# EAGLE library part 10M?D (library crystal)
Monolithic Crystal Filters Source: www.vanlong.com
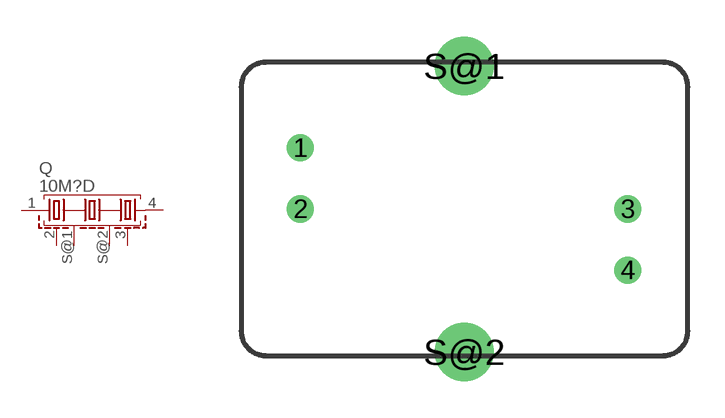
[diagram p7: symbol with the pads of M-4; footprint M-4]

Designator prefix Q

## 10M15D (OC_FARNELL: unknown; OC_NEWARK: unknown), 10M15D1 (OC_FARNELL: unknown; OC_NEWARK: unknown)  [M-4]
1  1  pas
2  2  pas
3  3  pas
4  4  pas
S@1  S  pas
S@2  S  pas

## Footprint M-4 (pad centres in mm)
Monolithic Crystal Filters Source: www.vanlong.com
drill 0.6 pad 1.016: 1 -6.7,2.5; 2 -6.7,0; 3 6.7,0; 4 6.7,-2.5
drill 1.6 pad 1.93: S@1 0,5.85; S@2 0,-5.85